# Altium footprint library PTSM.PcbLib: 2 footprints
Each footprint in its own frame and in the unit in brackets; x right, y up, seen from the top. Pads: shape width x height; smd on the part's side, far side on the other; paste and mask are expansions set on the pad; w line width, h text height; cw(c..) or ccw(c..) is an arc to the next point about the centre after c.
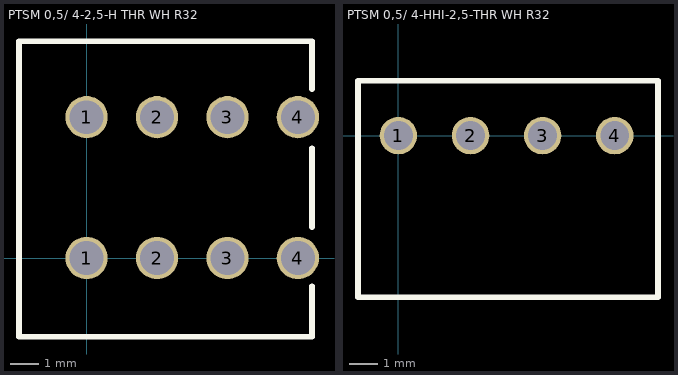
[diagram p0: the footprints below, top view; thin cyan lines are the x and y axes]

## PTSM 0,5/ 4-2,5-H THR WH R32 [mm]
pads (8):
  round 1.5 hole 1.2 paste-2539.97: 1(0,0) 1(0,5) 2(2.5,0) 2(2.5,5) 3(5,0) 3(5,5) 4(7.5,0) 4(7.5,5)
Top Overlay:
  lines w0.2: 8,-1 8,-2.8 -2.4,-2.8 -2.4,7.7 8,7.7 8,6 ; 8,1.1 8,3.9
3D body "1814511.stp": height 5, standoff -2.1, extent -2.35,-2.8 8.15,7.2

## PTSM 0,5/ 4-HHI-2,5-THR WH R32 [mm]
pads (4):
  round 1.3 hole 1 paste-2539.97: 1(0,0) 2(2.5,0) 3(5,0) 4(7.5,0)
Top Overlay:
  lines w0.2: -1.4,-5.6 -1.4,1.9 9,1.9 9,-5.6 -1.4,-5.6
3D body "1815002.stp": height 5, standoff -2.1, extent -1.698,-10.1 9.2,1.9